# EAGLE library part 74ACT125_BUFFER (library PiB)
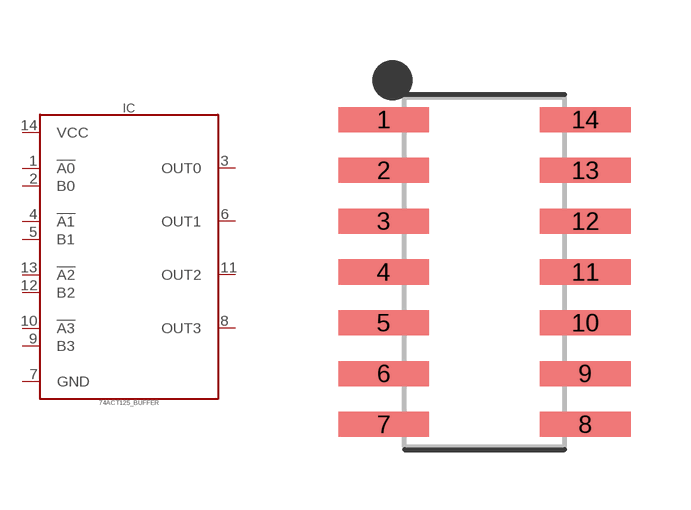
[diagram p18: symbol with the pads of SOIC127P600X175-14; footprint SOIC127P600X175-14]

Designator prefix IC

## 74ACT125_BUFFER_MC74AC125DR2G_QUAD_BUFFER_SOIC-14 (DATASHEET: https://www.onsemi.com/pub/Collateral/MC74AC125-D.PDF; DIST: Digikey; DISTLINK: https://www.digikey.com/products/en?keywords=MC74AC125DR2GOSCT-ND; DISTPN: MC74AC125DR2GOSCT-ND; MFR: ON Semiconductor; MPN: MC74AC125DR2G; VALUE: 74AC125)  [SOIC127P600X175-14]
1  !A0
2  B0
3  OUT0
4  !A1
5  B1
6  OUT1
7  GND
8  OUT3
9  B3
10  !A3
11  OUT2
12  B2
13  !A2
14  VCC

## Footprint SOIC127P600X175-14 (pad centres in mm)
14-SOIC, 1.27 mm pitch, 6.00 mm span, 8.65 X 3.90 X 1.75 mm body 14-pin SOIC package with 1.27 mm pitch, 6.00 mm span with body size 8.65 X 3.90 X 1.75 mm
smd 2.268 x 0.629: 1 -2.523,3.81; 2 -2.523,2.54; 3 -2.523,1.27; 4 -2.523,0; 5 -2.523,-1.27; 6 -2.523,-2.54; 7 -2.523,-3.81; 8 2.523,-3.81; 9 2.523,-2.54; 10 2.523,-1.27; 11 2.523,0; 12 2.523,1.27; 13 2.523,2.54; 14 2.523,3.81